# EAGLE library part ANLOGDEVICE_PSROCKER (library template)
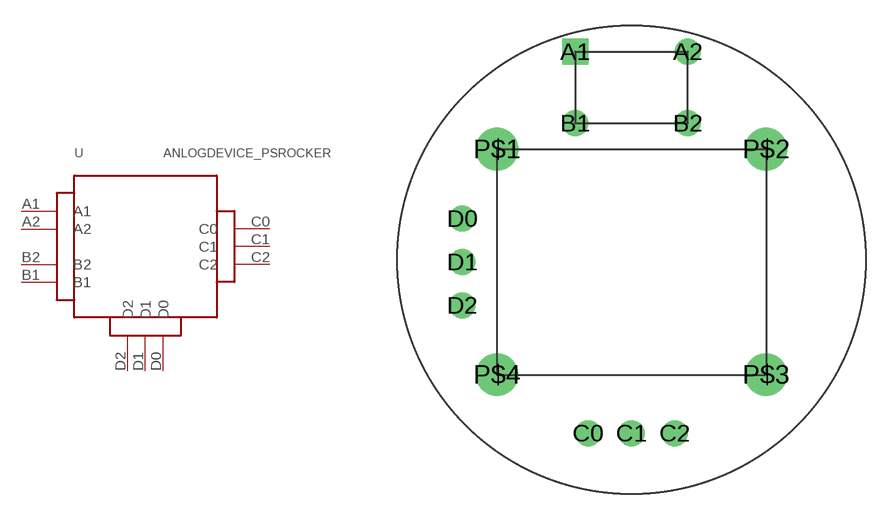
[diagram p36: symbol with the pads of ANLOGDEVICE_PSROCKER; footprint ANLOGDEVICE_PSROCKER]

Designator prefix -

## ANLOGDEVICE_PSROCKER  [ANLOGDEVICE_PSROCKER]
A1  A1
A2  A2
B1  B1
B2  B2
C0  C0
C1  C1
C2  C2
D0  D0
D1  D1
D2  D2

## Footprint ANLOGDEVICE_PSROCKER (pad centres in mm)
drill 0.813 pad 1.524 square: A1 -3.302,12.319
drill 0.813 pad 1.524: A2 3.302,12.319; B1 -3.302,8.128; B2 3.302,8.128; C0 -2.54,-10.033; C1 0,-10.033; C2 2.54,-10.033; D0 -9.906,2.54; D1 -9.906,0; D2 -9.906,-2.54
drill 1.6 pad 2.5: P$1 -7.874,6.604; P$2 7.874,6.604; P$3 7.874,-6.604; P$4 -7.874,-6.604